# Altium schematic symbol library 5123.SchLib: 1 symbol
Pins are listed as number, name and electrical type; pins without a type are passive.

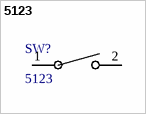
[diagram p0: symbol 5123]

## 5123
designator SW?
Description; Manufacturer_Name: Adafruit Industries; Copyright: Copyright (C) 2026 Ultra Librarian. All rights reserved.; Manufacturer_Part_Number: 5123
footprint Kailh_socket_MX
pins: 1, 2